# EAGLE library part DS1631S+ (library maxim)
DS1631S+ High-Precision Digital Thermometer and Thermostat
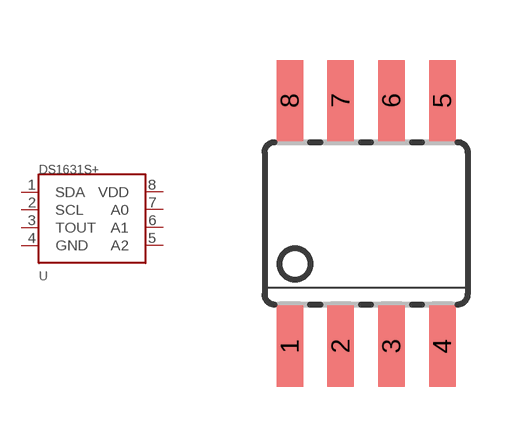
[diagram p1: symbol with the pads of SOIC08; footprint SOIC08]

Designator prefix -

## DS1631S+  [SOIC08]
1  SDA
2  SCL
3  TOUT
4  GND
5  A2
6  A1
7  A0
8  VDD

## Footprint SOIC08 (pad centres in mm)
Small Outline Package
smd 0.66 x 2.032: 1 -1.905,-3.073; 2 -0.635,-3.073; 3 0.635,-3.073; 4 1.905,-3.073; 5 1.905,3.073; 6 0.635,3.073; 7 -0.635,3.073; 8 -1.905,3.073